# Altium schematic symbol library sk7shared.SchLib: 20 symbols
Pins are listed as number, name and electrical type; pins without a type are passive.

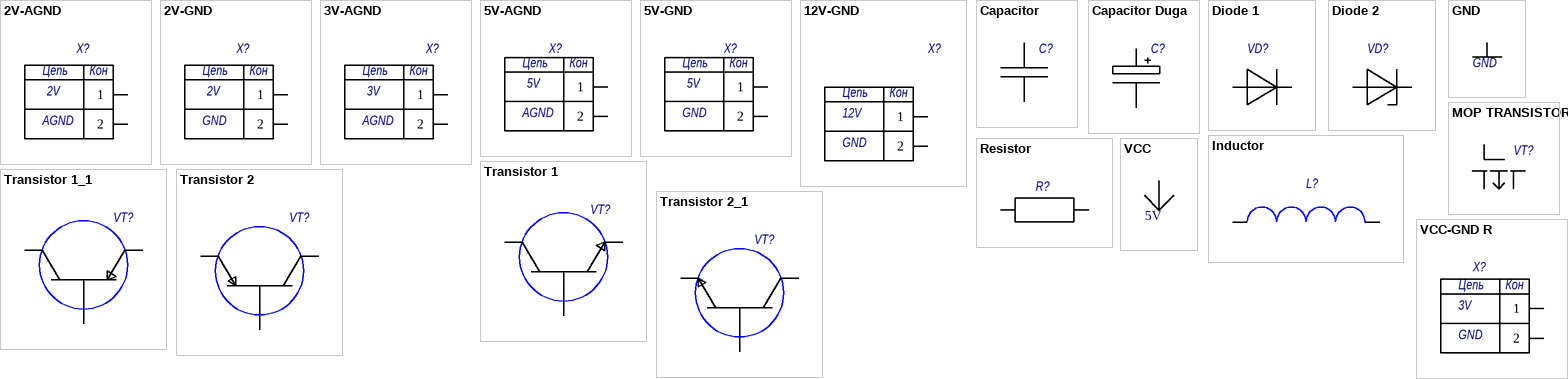
[diagram p0: symbols 2V-AGND to VCC-GND R]

## 2V-AGND
designator X?  (value not drawn)
footprint VCC-GND
pins: 1, 2
text: Цепь; Кон; 2V; AGND

## 2V-GND
designator X?  (value not drawn)
footprint VCC-GND
pins: 1, 2
text: Цепь; Кон; 2V; GND

## 3V-AGND
designator X?  (value not drawn)
footprint VCC-GND
pins: 1, 2
text: Цепь; Кон; 3V; AGND

## 5V-AGND
designator X?  (value not drawn)
footprint VCC-GND
pins: 1, 2
text: Цепь; Кон; 5V; AGND

## 5V-GND
designator X?  (value not drawn)
footprint VCC-GND
pins: 1, 2
text: Цепь; Кон; 5V; GND

## 12V-GND
designator X?  (value not drawn)
footprint VCC-GND
pins: 1, 2
text: Цепь; Кон; 12V; GND

## Capacitor
designator C?  (value not drawn)
Model: *
footprint Capacitor 0805
pins: 1, 2

## Capacitor Duga
designator C?  (value not drawn)
Model: *
footprint Capacitor 0805
pins: 1, 2

## Diode 1
designator VD?  (value not drawn)
Model: *
footprint Diode
pins: 1, 2

## Diode 2
designator VD?  (value not drawn)
Model: *
footprint Diode
pins: 1, 2

## GND
designator GND?
footprint ONE PIN
pins: 1

## Inductor
designator L?  (value not drawn)
Model: *
footprint Inductor 2520
pins: 1, 2

## MOP TRANSISTOR
designator VT?  (value not drawn)
footprint TR
pins: 1, 2, 3, 4

## Resistor
designator R?  (value not drawn)
Model: *
footprint Resistor 1206
pins: 1, 2

## Transistor 1
designator VT?  (value not drawn)
footprint Transistor 1
pins: 1 KOLLECTOR, 2 EMITTER, 3 BAZA

## Transistor 1_1
designator VT?  (value not drawn)
footprint Transistor 1
pins: 1 KOLLECTOR, 2 EMITTER, 3 BAZA

## Transistor 2
designator VT?  (value not drawn)
footprint Transistor 1
pins: 1 KOLLECTOR, 2 EMITTER, 3 BAZA

## Transistor 2_1
designator VT?  (value not drawn)
footprint Transistor 1
pins: 1 KOLLECTOR, 2 EMITTER, 3 BAZA

## VCC
designator VCC?, comment 5V
footprint ONE PIN
pins: 1

## VCC-GND R
designator X?  (value not drawn)
footprint VCC-GND
pins: 1, 2
text: Цепь; Кон; 3V; GND